# EAGLE library part CD4073 (library jack_libs)
3 Input 3 Gate AND IC Datasheet: http://www.ti.com/lit/gpn/cd4073b
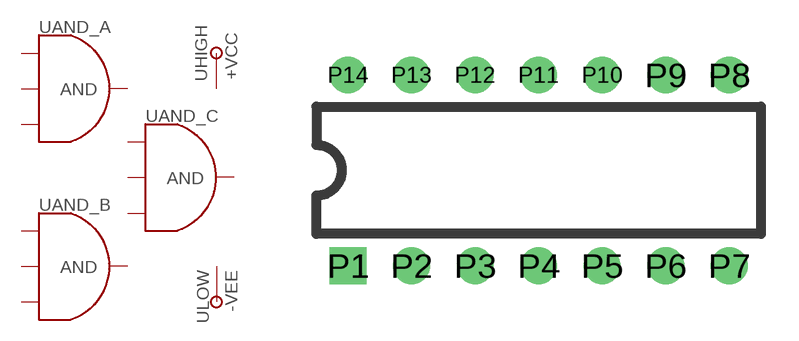
[diagram p1: symbol with the pads of DIP-14; footprint DIP-14]

Designator prefix U; gates HIGH=LOGIC_VCC LOW=LOGIC_VEE AND_A=LOGIC_AND_GATE_3IN AND_B=LOGIC_AND_GATE_3IN AND_C=LOGIC_AND_GATE_3IN

## CD4073  [DIP-14]
P1  AND_A:IN_A
P2  AND_A:IN_B
P3  AND_B:IN_A
P4  AND_B:IN_B
P5  AND_B:IN_C
P6  AND_B:OUT
P7  LOW:P$1
P8  AND_A:IN_C
P9  AND_A:OUT
P10  AND_C:OUT
P11  AND_C:IN_A
P12  AND_C:IN_B
P13  AND_C:IN_C
P14  HIGH:P$1

## Footprint DIP-14 (pad centres in mm)
drill 0.965 square: P1 -7.62,-3.81
drill 0.965: P2 -5.08,-3.81; P3 -2.54,-3.81; P4 0,-3.81; P5 2.54,-3.81; P6 5.08,-3.81; P7 7.62,-3.81; P8 7.62,3.81; P9 5.08,3.81; P10 2.54,3.81; P11 0,3.81; P12 -2.54,3.81; P13 -5.08,3.81; P14 -7.62,3.81